# EAGLE library part MOLEX-SD-105027 (library pyboard)
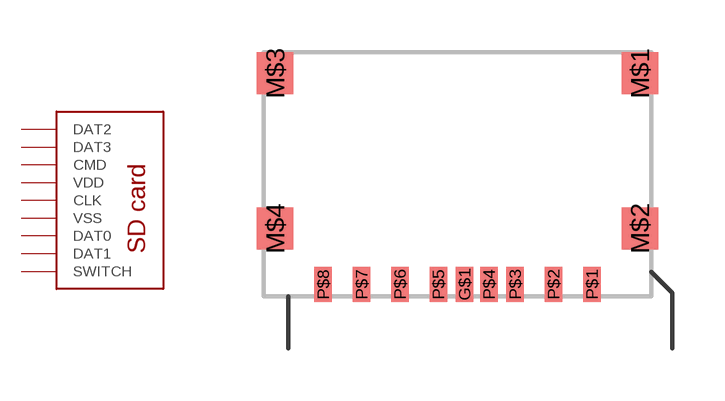
[diagram p1: symbol with the pads of MOLEX-SD-105027-PKG; footprint MOLEX-SD-105027-PKG]

Designator prefix -

## MOLEX-SD-105027  [MOLEX-SD-105027-PKG]
G$1  SWITCH
P$1  DAT2
P$2  DAT3
P$3  CMD
P$4  VDD
P$5  CLK
P$6  VSS
P$7  DAT0
P$8  DAT1

## Footprint MOLEX-SD-105027-PKG (pad centres in mm)
smd 0.5 x 1: G$1 0.2,-6.66; P$1 3.85,-6.66; P$2 2.75,-6.66; P$3 1.65,-6.66; P$4 0.9,-6.66; P$5 -0.55,-6.66; P$6 -1.65,-6.66; P$7 -2.75,-6.66; P$8 -3.85,-6.66
smd 1.05 x 1.2: M$1 5.225,-0.6; M$2 5.225,-5.05; M$3 -5.225,-0.6; M$4 -5.225,-5.05